# Altium schematic symbol library IC_Video.SchLib: 3 symbols
Pins are listed as number, name and electrical type; pins without a type are passive.

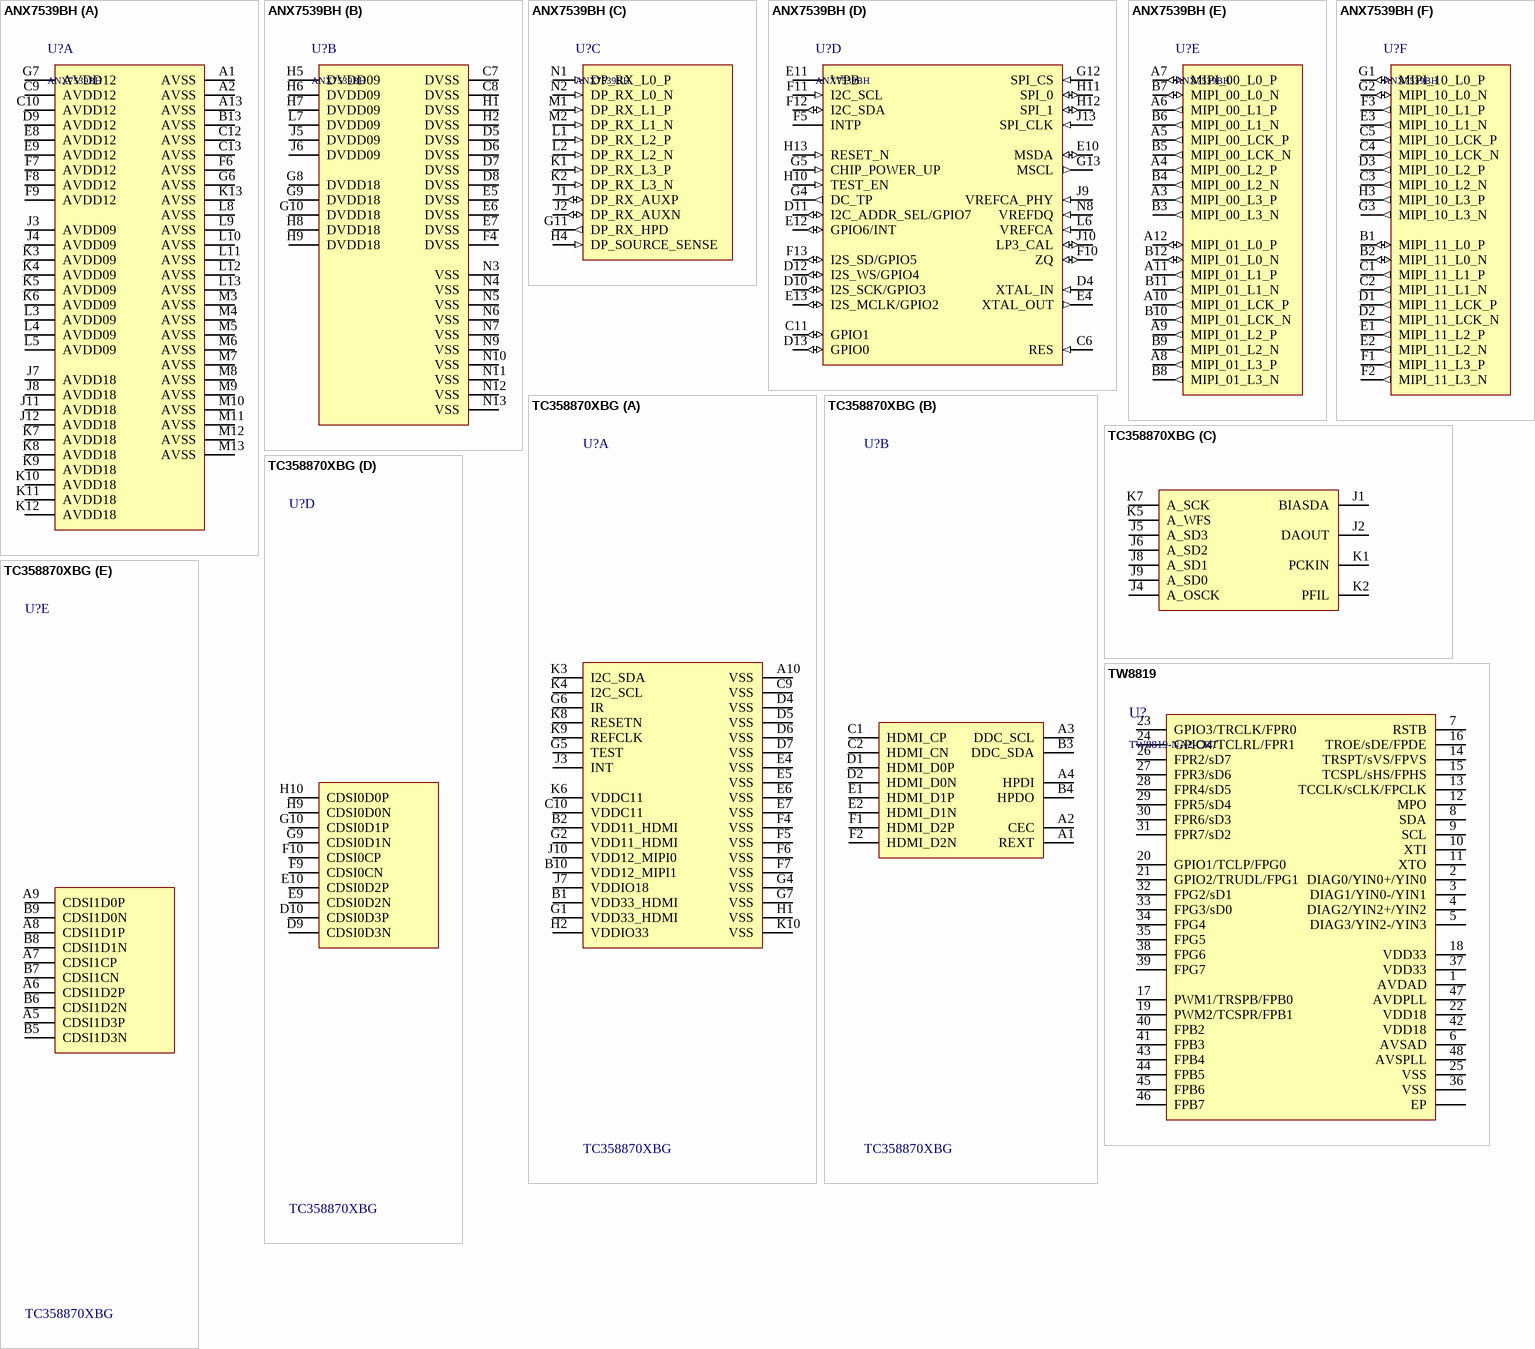
[diagram p0: symbols ANX7539BH to TW8819]

## ANX7539BH
designator U?
Ultra-HD (3840x2160p120) low-power mobile HD receiver; HelpURL: https://www.analogix.com/en/system/files/AA-005715-PB-2-ANX7539_Product_Brief.pdf; Supplier: https://www.analogix.com/en/products/dp-mipi-converters/anx7539; Name: ANX7539BH; BOMString: ANX7539BH
footprint BGA169-0.5-8x8 (BGA, 169-Leads, Body 8,00x8,00mmx0,79mm, Pitch 0,50mm)
part A pins: A1 AVSS (power), A2 AVSS (power), A13 AVSS (power), B13 AVSS (power), C9 AVDD12 (power), C10 AVDD12 (power), C12 AVSS (power), C13 AVSS (power), D9 AVDD12 (power), E8 AVDD12 (power), E9 AVDD12 (power), F6 AVSS (power), F7 AVDD12 (power), F8 AVDD12 (power), F9 AVDD12 (power), G6 AVSS (power), G7 AVDD12 (power), J3 AVDD09 (power), J4 AVDD09 (power), J7 AVDD18 (power), J8 AVDD18 (power), J11 AVDD18 (power), J12 AVDD18 (power), K3 AVDD09 (power), K4 AVDD09 (power), K5 AVDD09 (power), K6 AVDD09 (power), K7 AVDD18 (power), K8 AVDD18 (power), K9 AVDD18 (power), K10 AVDD18 (power), K11 AVDD18 (power), K12 AVDD18 (power), K13 AVSS (power), L3 AVDD09 (power), L4 AVDD09 (power), L5 AVDD09 (power), L8 AVSS (power), L9 AVSS (power), L10 AVSS (power), L11 AVSS (power), L12 AVSS (power), L13 AVSS (power), M3 AVSS (power), M4 AVSS (power), M5 AVSS (power), M6 AVSS (power), M7 AVSS (power), M8 AVSS (power), M9 AVSS (power), M10 AVSS (power), M11 AVSS (power), M12 AVSS (power), M13 AVSS (power)
part B pins: C7 DVSS (power), C8 DVSS (power), D5 DVSS (power), D6 DVSS (power), D7 DVSS (power), D8 DVSS (power), E5 DVSS (power), E6 DVSS (power), E7 DVSS (power), F4 DVSS (power), G8 DVDD18 (power), G9 DVDD18 (power), G10 DVDD18 (power), H1 DVSS (power), H2 DVSS (power), H5 DVDD09 (power), H6 DVDD09 (power), H7 DVDD09 (power), H8 DVDD18 (power), H9 DVDD18 (power), J5 DVDD09 (power), J6 DVDD09 (power), L7 DVDD09 (power), N3 VSS (power), N4 VSS (power), N5 VSS (power), N6 VSS (power), N7 VSS (power), N9 VSS (power), N10 VSS (power), N11 VSS (power), N12 VSS (power), N13 VSS (power)
part C pins: G11 DP_RX_HPD (out), H4 DP_SOURCE_SENSE (in), J1 DP_RX_AUXP (io), J2 DP_RX_AUXN (io), K1 DP_RX_L3_P (in), K2 DP_RX_L3_N (in), L1 DP_RX_L2_P (in), L2 DP_RX_L2_N (in), M1 DP_RX_L1_P (in), M2 DP_RX_L1_N (in), N1 DP_RX_L0_P (in), N2 DP_RX_L0_N (in)
part D pins: C6 RES (in), C11 GPIO1 (io), D4 XTAL_IN (in), D10 I2S_SCK/GPIO3 (io), D11 I2C_ADDR_SEL/GPIO7 (io), D12 I2S_WS/GPIO4 (io), D13 GPIO0 (io), E4 XTAL_OUT (out), E10 MSDA (io), E11 WPB, E12 GPIO6/INT (io), E13 I2S_MCLK/GPIO2 (io), F5 INTP, F10 ZQ (io), F11 I2C_SCL (in), F12 I2C_SDA (io), F13 I2S_SD/GPIO5 (io), G4 DC_TP (out), G5 CHIP_POWER_UP (in), G12 SPI_CS (in), G13 MSCL (out), H10 TEST_EN (in), H11 SPI_0 (io), H12 SPI_1 (io), H13 RESET_N (in), J9 VREFCA_PHY (in), J10 LP3_CAL (io), J13 SPI_CLK (in), L6 VREFCA (in), N8 VREFDQ (in)
part E pins: A3 MIPI_00_L3_P (out), A4 MIPI_00_L2_P (out), A5 MIPI_00_LCK_P (out), A6 MIPI_00_L1_P (out), A7 MIPI_00_L0_P (io), A8 MIPI_01_L3_P (out), A9 MIPI_01_L2_P (out), A10 MIPI_01_LCK_P (out), A11 MIPI_01_L1_P (out), A12 MIPI_01_L0_P (io), B3 MIPI_00_L3_N (out), B4 MIPI_00_L2_N (out), B5 MIPI_00_LCK_N (out), B6 MIPI_00_L1_N (out), B7 MIPI_00_L0_N (io), B8 MIPI_01_L3_N (out), B9 MIPI_01_L2_N (out), B10 MIPI_01_LCK_N (out), B11 MIPI_01_L1_N (out), B12 MIPI_01_L0_N (io)
part F pins: B1 MIPI_11_L0_P (io), B2 MIPI_11_L0_N (io), C1 MIPI_11_L1_P (out), C2 MIPI_11_L1_N (out), C3 MIPI_10_L2_N (out), C4 MIPI_10_LCK_N (out), C5 MIPI_10_LCK_P (out), D1 MIPI_11_LCK_P (out), D2 MIPI_11_LCK_N (out), D3 MIPI_10_L2_P (out), E1 MIPI_11_L2_P (out), E2 MIPI_11_L2_N (out), E3 MIPI_10_L1_N (out), F1 MIPI_11_L3_P (out), F2 MIPI_11_L3_N (out), F3 MIPI_10_L1_P (out), G1 MIPI_10_L0_P (io), G2 MIPI_10_L0_N (io), G3 MIPI_10_L3_N (out), H3 MIPI_10_L3_P (out)

## TC358870XBG
designator U?
Ultra HD to dual DSI bridge; Name: TC358870XBG; BOMString: TC358870XBG; HelpURL: https://toshiba.semicon-storage.com/info/docget.jsp?did=28743&prodName=TC358870XBG; Supplier: https://toshiba.semicon-storage.com/ru/product/assp/interface-bridge/detail.TC358870XBG.html
footprint VFBGA-80-0707-0.65 (BGA, 64-Leads, Body 7,00x7,00mmx1,00mm, Pitch 0,65mm)
part A pins: A10 VSS, B1 VDD33_HDMI, B2 VDD11_HDMI, B10 VDD12_MIPI1, C9 VSS, C10 VDDC11, D4 VSS, D5 VSS, D6 VSS, D7 VSS, E4 VSS, E5 VSS, E6 VSS, E7 VSS, F4 VSS, F5 VSS, F6 VSS, F7 VSS, G1 VDD33_HDMI, G2 VDD11_HDMI, G4 VSS, G5 TEST, G6 IR, G7 VSS, H1 VSS, H2 VDDIO33, J3 INT, J7 VDDIO18, J10 VDD12_MIPI0, K3 I2C_SDA, K4 I2C_SCL, K6 VDDC11, K8 RESETN, K9 REFCLK, K10 VSS
part B pins: A1 REXT, A2 CEC, A3 DDC_SCL, A4 HPDI, B3 DDC_SDA, B4 HPDO, C1 HDMI_CP, C2 HDMI_CN, D1 HDMI_D0P, D2 HDMI_D0N, E1 HDMI_D1P, E2 HDMI_D1N, F1 HDMI_D2P, F2 HDMI_D2N
part C pins: J1 BIASDA, J2 DAOUT, J4 A_OSCK, J5 A_SD3, J6 A_SD2, J8 A_SD1, J9 A_SD0, K1 PCKIN, K2 PFIL, K5 A_WFS, K7 A_SCK
part D pins: D9 CDSI0D3N, D10 CDSI0D3P, E9 CDSI0D2N, E10 CDSI0D2P, F9 CDSI0CN, F10 CDSI0CP, G9 CDSI0D1N, G10 CDSI0D1P, H9 CDSI0D0N, H10 CDSI0D0P
part E pins: A5 CDSI1D3P, A6 CDSI1D2P, A7 CDSI1CP, A8 CDSI1D1P, A9 CDSI1D0P, B5 CDSI1D3N, B6 CDSI1D2N, B7 CDSI1CN, B8 CDSI1D1N, B9 CDSI1D0N

## TW8819
designator U?, comment TW8819-NA2-CRT
HelpURL: https://www.renesas.com/in/en/www/doc/datasheet/tw8819.pdf
footprint QFN-48-0.5-7x7_TP
pins: 0 EP, 1 AVDAD, 2 DIAG0/YIN0+/YIN0, 3 DIAG1/YIN0-/YIN1, 4 DIAG2/YIN2+/YIN2, 5 DIAG3/YIN2-/YIN3, 6 AVSAD, 7 RSTB, 8 SDA, 9 SCL, 10 XTI, 11 XTO, 12 MPO, 13 TCCLK/sCLK/FPCLK, 14 TRSPT/sVS/FPVS, 15 TCSPL/sHS/FPHS, 16 TROE/sDE/FPDE, 17 PWM1/TRSPB/FPB0, 18 VDD33, 19 PWM2/TCSPR/FPB1, 20 GPIO1/TCLP/FPG0, 21 GPIO2/TRUDL/FPG1, 22 VDD18, 23 GPIO3/TRCLK/FPR0, 24 GPIO4/TCLRL/FPR1, 25 VSS, 26 FPR2/sD7, 27 FPR3/sD6, 28 FPR4/sD5, 29 FPR5/sD4, 30 FPR6/sD3, 31 FPR7/sD2, 32 FPG2/sD1, 33 FPG3/sD0, 34 FPG4, 35 FPG5, 36 VSS, 37 VDD33, 38 FPG6, 39 FPG7, 40 FPB2, 41 FPB3, 42 VDD18, 43 FPB4, 44 FPB5, 45 FPB6, 46 FPB7, 47 AVDPLL, 48 AVSPLL